# Altium schematic symbol library WR-PHD_Pin Header_2.54mm.SchLib: 136 symbols (part 3 of 3)
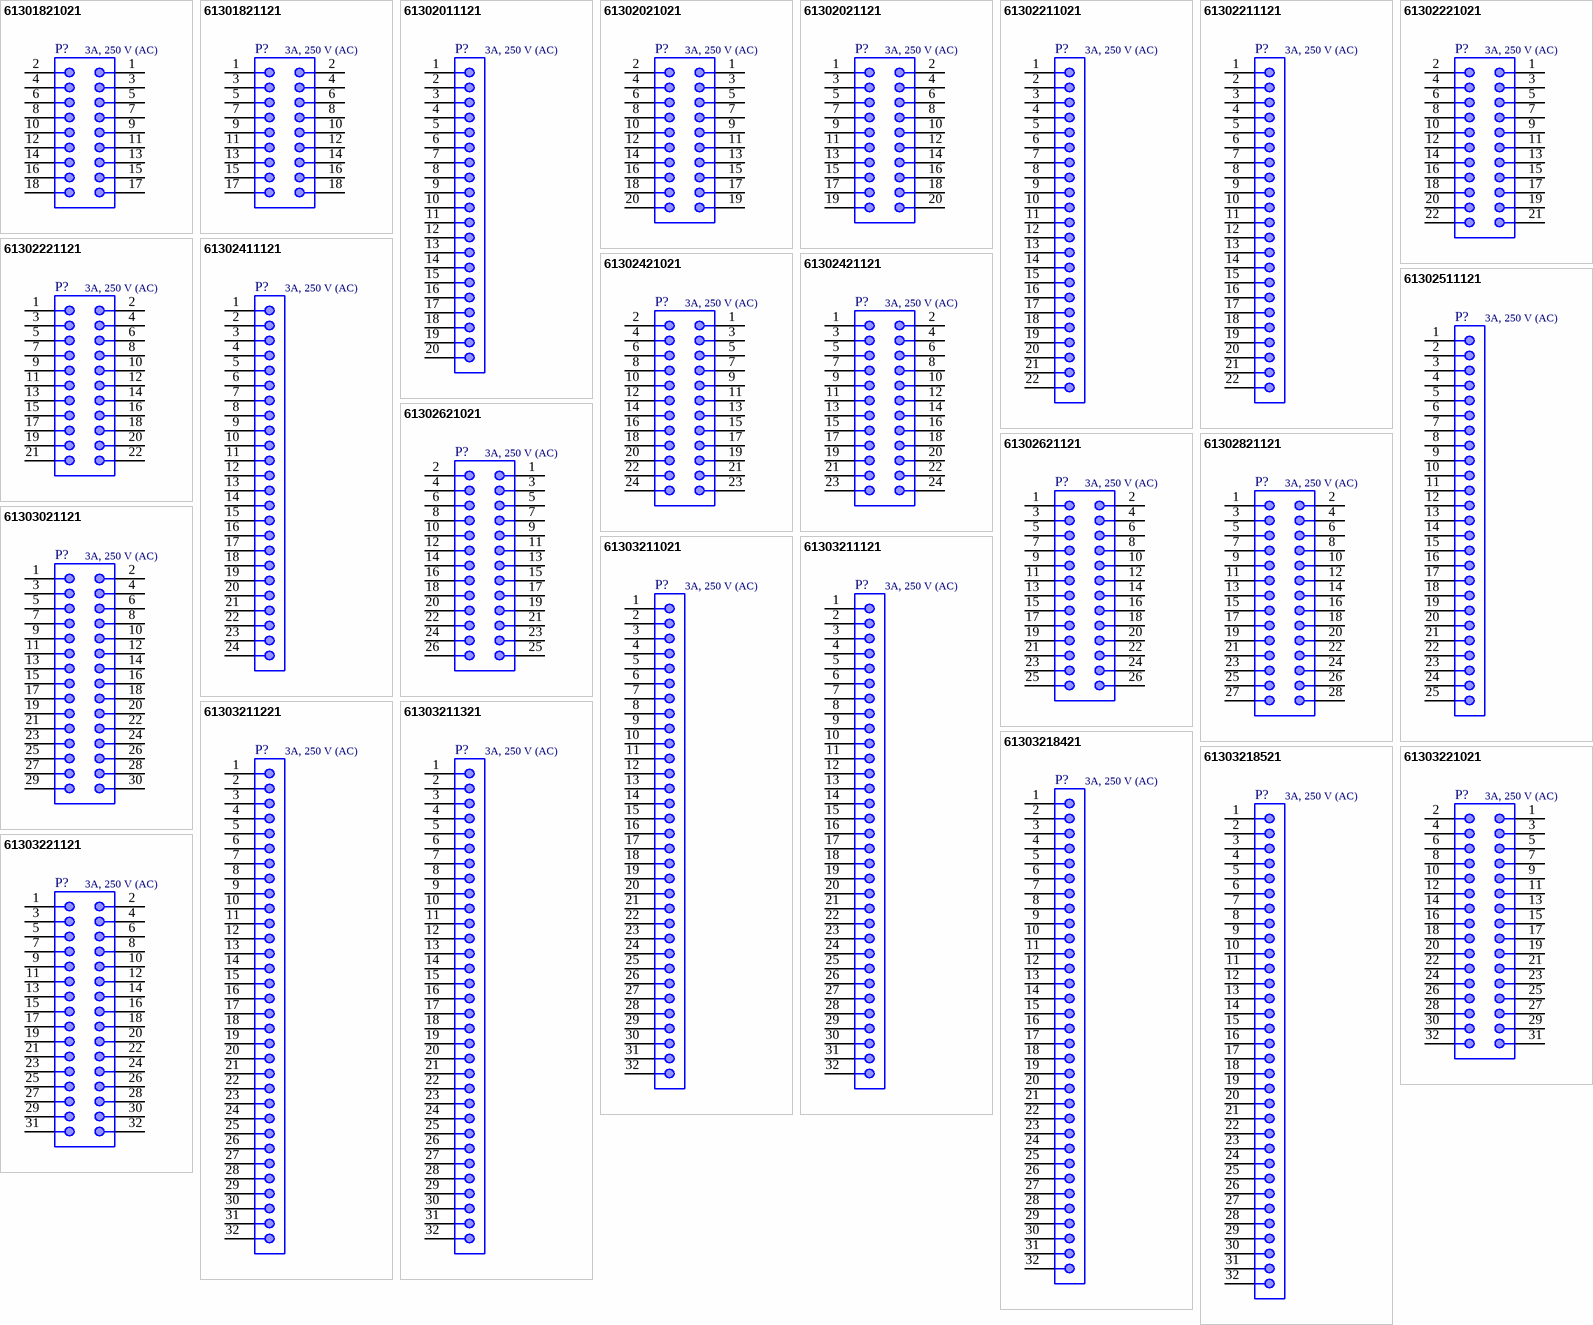
[diagram p6: symbols 61301821021 to 61303221121]

## 61302621121
designator P?, comment 3A, 250 V (AC)
WR-PHD Pin Header, THT, pitch 2.54mm, Dual Row, Vertical, 26p; Manufacturer Part Number: 61302621121; Manufacturer: Wurth Elektronik; Pin Number: 26; Working Voltage: 250VAC; Withstanding Voltage: 500VAC; Contact Resistance: 20mOhm; ComponentLink1Description: Datasheet; ComponentLink1URL: https://www.we-online.com/catalog/datasheet/61302621121.pdf; Published Date: May 2020; Pitch: 2.54mm; Packaging: Bag; Gender: Pin Header; Rated Current: 3A; Row Number: Dual; Orientation: Vertical; Supplier 1 URL: https://www.mouser.vn/ProductDetail/Wurth-Elektronik/61302621121?qs=PhR8RmCirEalTsPbGBaygg%3D%3D; Supplier 2 URL: N/A; Supplier 3 URL: N/A; LCSC Part #: N/A; Mount: THT; Operating Temperature Max: + 85 C; Operating Temperature Min: - 25 C; Supplier 1: Mouser; Supplier 1 Part Number: 710-61302621121; Supplier 2: Digi-Key; Supplier 2 Part Number: N/A; Supplier 3: thegioiic; Supplier 3 Part Number: N/A; Value: 3A, 250 V (AC)
footprint 61302621121
pins: 1, 2, 3, 4, 5, 6, 7, 8, 9, 10, 11, 12, 13, 14, 15, 16, 17, 18, 19, 20, 21, 22, 23, 24, 25, 26

## 61302821121
designator P?, comment 3A, 250 V (AC)
WR-PHD Pin Header, THT, pitch 2.54mm, Dual Row, Vertical, 28p; Manufacturer Part Number: 61302821121; Manufacturer: Wurth Elektronik; Pin Number: 28; Working Voltage: 250VAC; Withstanding Voltage: 500VAC; Contact Resistance: 20mOhm; ComponentLink1Description: Datasheet; ComponentLink1URL: https://www.we-online.com/catalog/datasheet/61302821121.pdf; Published Date: May 2020; Pitch: 2.54mm; Packaging: Bag; Gender: Pin Header; Rated Current: 3A; Row Number: Dual; Orientation: Vertical; Supplier 1 URL: https://www.mouser.vn/ProductDetail/Wurth-Elektronik/61302821121?qs=PhR8RmCirEYKibIzp7sF3Q%3D%3D; Supplier 2 URL: N/A; Supplier 3 URL: N/A; LCSC Part #: N/A; Mount: THT; Operating Temperature Max: + 85 C; Operating Temperature Min: - 25 C; Supplier 1: Mouser; Supplier 1 Part Number: 710-61302821121; Supplier 2: Digi-Key; Supplier 2 Part Number: N/A; Supplier 3: thegioiic; Supplier 3 Part Number: N/A; Value: 3A, 250 V (AC)
footprint 61302821121
pins: 1, 2, 3, 4, 5, 6, 7, 8, 9, 10, 11, 12, 13, 14, 15, 16, 17, 18, 19, 20, 21, 22, 23, 24, 25, 26, 27, 28

## 61303021121
designator P?, comment 3A, 250 V (AC)
WR-PHD Pin Header, THT, pitch 2.54mm, Dual Row, Vertical, 30p; Manufacturer Part Number: 61303021121; Manufacturer: Wurth Elektronik; Pin Number: 30; Working Voltage: 250VAC; Withstanding Voltage: 500VAC; Contact Resistance: 20mOhm; ComponentLink1Description: Datasheet; ComponentLink1URL: https://www.we-online.com/catalog/datasheet/61303021121.pdf; Published Date: May 2020; Pitch: 2.54mm; Packaging: Bag; Gender: Pin Header; Rated Current: 3A; Row Number: Dual; Orientation: Vertical; Supplier 1 URL: https://www.mouser.vn/ProductDetail/Wurth-Elektronik/61303021121?qs=PhR8RmCirEY%2F7mf%2Fwdy8Vg%3D%3D; Supplier 2 URL: N/A; Supplier 3 URL: N/A; LCSC Part #: N/A; Mount: THT; Operating Temperature Max: + 85 C; Operating Temperature Min: - 25 C; Supplier 1: Mouser; Supplier 1 Part Number: 710-61303021121; Supplier 2: Digi-Key; Supplier 2 Part Number: N/A; Supplier 3: thegioiic; Supplier 3 Part Number: N/A; Value: 3A, 250 V (AC)
footprint 61303021121
pins: 1, 2, 3, 4, 5, 6, 7, 8, 9, 10, 11, 12, 13, 14, 15, 16, 17, 18, 19, 20, 21, 22, 23, 24, 25, 26, 27, 28, 29, 30

## 61303211021
designator P?, comment 3A, 250 V (AC)
WR-PHD Pin Header, THT, pitch 2.54mm, Single Row, Angled, 32p; Manufacturer Part Number: 61303211021; Manufacturer: Wurth Elektronik; Pin Number: 32; Working Voltage: 250VAC; Withstanding Voltage: 500VAC; Contact Resistance: 20mOhm; ComponentLink1Description: Datasheet; ComponentLink1URL: https://www.we-online.com/catalog/datasheet/61303211021.pdf; Published Date: May 2020; Pitch: 2.54mm; Packaging: Bag; Gender: Pin Header; Rated Current: 3A; Row Number: Single; Orientation: Angled; Supplier 1 URL: N/A; Supplier 2 URL: N/A; Supplier 3 URL: N/A; LCSC Part #: N/A; Mount: THT; Operating Temperature Max: + 85 C; Operating Temperature Min: - 25 C; Supplier 1: Mouser; Supplier 1 Part Number: N/A; Supplier 2: Digi-Key; Supplier 2 Part Number: N/A; Supplier 3: thegioiic; Supplier 3 Part Number: N/A; Value: 3A, 250 V (AC)
footprint 61303211021
pins: 1, 2, 3, 4, 5, 6, 7, 8, 9, 10, 11, 12, 13, 14, 15, 16, 17, 18, 19, 20, 21, 22, 23, 24, 25, 26, 27, 28, 29, 30, 31, 32

## 61303211121
designator P?, comment 3A, 250 V (AC)
WR-PHD Pin Header, THT, pitch 2.54mm, Single Row, Vertical, 32p; Manufacturer Part Number: 61303211121; Manufacturer: Wurth Elektronik; Pin Number: 32; Working Voltage: 250VAC; Withstanding Voltage: 500VAC; Contact Resistance: 20mOhm; ComponentLink1Description: Datasheet; ComponentLink1URL: https://www.we-online.com/catalog/datasheet/61303211121.pdf; Published Date: May 2020; Pitch: 2.54mm; Packaging: Bag; Gender: Pin Header; Rated Current: 3A; Row Number: Single; Orientation: Vertical; Supplier 1 URL: https://www.mouser.vn/ProductDetail/Wurth-Elektronik/61303211121?qs=ZtY9WdtwX54tNU2%252BRPC1bA%3D%3D; Supplier 2 URL: N/A; Supplier 3 URL: N/A; LCSC Part #: N/A; Mount: THT; Operating Temperature Max: + 85 C; Operating Temperature Min: - 25 C; Supplier 1: Mouser; Supplier 1 Part Number: 710-61303211121; Supplier 2: Digi-Key; Supplier 2 Part Number: N/A; Supplier 3: thegioiic; Supplier 3 Part Number: N/A; Value: 3A, 250 V (AC)
footprint 61303211121
pins: 1, 2, 3, 4, 5, 6, 7, 8, 9, 10, 11, 12, 13, 14, 15, 16, 17, 18, 19, 20, 21, 22, 23, 24, 25, 26, 27, 28, 29, 30, 31, 32

## 61303211221
designator P?, comment 3A, 250 V (AC)
WR-PHD Pin Header, THT, pitch 2.54mm, Single Row, Vertical, 32p; Manufacturer Part Number: 61303211221; Manufacturer: Wurth Elektronik; Pin Number: 32; Working Voltage: 250VAC; Withstanding Voltage: 500VAC; Contact Resistance: 20mOhm; ComponentLink1Description: Datasheet; ComponentLink1URL: https://www.we-online.com/catalog/datasheet/61303211221.pdf; Published Date: May 2020; Pitch: 2.54mm; Packaging: Bag; Gender: Pin Header; Rated Current: 3A; Row Number: Single; Orientation: Vertical; Supplier 1 URL: https://www.mouser.vn/ProductDetail/Wurth-Elektronik/61303211221?qs=iLbezkQI%252BsjhOVkfD%252B%2F0nA%3D%3D; Supplier 2 URL: N/A; Supplier 3 URL: N/A; LCSC Part #: N/A; Mount: THT; Operating Temperature Max: + 85 C; Operating Temperature Min: - 25 C; Supplier 1: Mouser; Supplier 1 Part Number: 710-61303211221; Supplier 2: Digi-Key; Supplier 2 Part Number: N/A; Supplier 3: thegioiic; Supplier 3 Part Number: N/A; Value: 3A, 250 V (AC)
footprint 61303211221
pins: 1, 2, 3, 4, 5, 6, 7, 8, 9, 10, 11, 12, 13, 14, 15, 16, 17, 18, 19, 20, 21, 22, 23, 24, 25, 26, 27, 28, 29, 30, 31, 32

## 61303211321
designator P?, comment 3A, 250 V (AC)
WR-PHD Pin Header, THT, pitch 2.54mm, Single Row, Vertical, 32p; Manufacturer Part Number: 61303211321; Manufacturer: Wurth Elektronik; Pin Number: 32; Working Voltage: 250VAC; Withstanding Voltage: 500VAC; Contact Resistance: 20mOhm; ComponentLink1Description: Datasheet; ComponentLink1URL: https://www.we-online.com/catalog/datasheet/61303211321.pdf; Published Date: May 2020; Pitch: 2.54mm; Packaging: Bag; Gender: Pin Header; Rated Current: 3A; Row Number: Single; Orientation: Vertical; Supplier 1 URL: N/A; Supplier 2 URL: N/A; Supplier 3 URL: N/A; LCSC Part #: N/A; Mount: THT; Operating Temperature Max: + 85 C; Operating Temperature Min: - 25 C; Supplier 1: Mouser; Supplier 1 Part Number: N/A; Supplier 2: Digi-Key; Supplier 2 Part Number: N/A; Supplier 3: thegioiic; Supplier 3 Part Number: N/A; Value: 3A, 250 V (AC)
footprint 61303211321
pins: 1, 2, 3, 4, 5, 6, 7, 8, 9, 10, 11, 12, 13, 14, 15, 16, 17, 18, 19, 20, 21, 22, 23, 24, 25, 26, 27, 28, 29, 30, 31, 32

## 61303218421
designator P?, comment 3A, 250 V (AC)
WR-PHD Pin Header, THT, pitch 2.54mm, Single Row, Vertical, 32p; Manufacturer Part Number: 61303218421; Manufacturer: Wurth Elektronik; Pin Number: 32; Working Voltage: 250VAC; Withstanding Voltage: 500VAC; Contact Resistance: 20mOhm; ComponentLink1Description: Datasheet; ComponentLink1URL: https://www.we-online.com/catalog/datasheet/61303218421.pdf; Published Date: May 2020; Pitch: 2.54mm; Packaging: Bag; Gender: Pin Header; Rated Current: 3A; Row Number: Single; Orientation: Vertical; Supplier 1 URL: N/A; Supplier 2 URL: N/A; Supplier 3 URL: N/A; LCSC Part #: N/A; Mount: THT; Operating Temperature Max: + 85 C; Operating Temperature Min: - 25 C; Supplier 1: Mouser; Supplier 1 Part Number: N/A; Supplier 2: Digi-Key; Supplier 2 Part Number: N/A; Supplier 3: thegioiic; Supplier 3 Part Number: N/A; Value: 3A, 250 V (AC)
footprint 61303218421
pins: 1, 2, 3, 4, 5, 6, 7, 8, 9, 10, 11, 12, 13, 14, 15, 16, 17, 18, 19, 20, 21, 22, 23, 24, 25, 26, 27, 28, 29, 30, 31, 32

## 61303218521
designator P?, comment 3A, 250 V (AC)
WR-PHD Pin Header, THT, pitch 2.54mm, Single Row, Vertical, 32p; Manufacturer Part Number: 61303218521; Manufacturer: Wurth Elektronik; Pin Number: 32; Working Voltage: 250VAC; Withstanding Voltage: 500VAC; Contact Resistance: 20mOhm; ComponentLink1Description: Datasheet; ComponentLink1URL: https://www.we-online.com/catalog/datasheet/61303218521.pdf; Published Date: May 2020; Pitch: 2.54mm; Packaging: Bag; Gender: Pin Header; Rated Current: 3A; Row Number: Single; Orientation: Vertical; Supplier 1 URL: N/A; Supplier 2 URL: N/A; Supplier 3 URL: N/A; LCSC Part #: N/A; Mount: THT; Operating Temperature Max: + 85 C; Operating Temperature Min: - 25 C; Supplier 1: Mouser; Supplier 1 Part Number: N/A; Supplier 2: Digi-Key; Supplier 2 Part Number: N/A; Supplier 3: thegioiic; Supplier 3 Part Number: N/A; Value: 3A, 250 V (AC)
footprint 61303218521
pins: 1, 2, 3, 4, 5, 6, 7, 8, 9, 10, 11, 12, 13, 14, 15, 16, 17, 18, 19, 20, 21, 22, 23, 24, 25, 26, 27, 28, 29, 30, 31, 32

## 61303221021
designator P?, comment 3A, 250 V (AC)
WR-PHD Pin Header, THT, pitch 2.54mm, Dual Row, Angled, 32p; Manufacturer Part Number: 61303221021; Manufacturer: Wurth Elektronik; Pin Number: 32; Working Voltage: 250VAC; Withstanding Voltage: 500VAC; Contact Resistance: 20mOhm; ComponentLink1Description: Datasheet; ComponentLink1URL: https://www.we-online.com/catalog/datasheet/61303221021.pdf; Published Date: May 2020; Pitch: 2.54mm; Packaging: Bag; Gender: Pin Header; Rated Current: 3A; Row Number: Dual; Orientation: Angled; Supplier 1 URL: https://www.mouser.vn/ProductDetail/Wurth-Elektronik/61303221021?qs=PhR8RmCirEYGKwjyCca5qQ%3D%3D; Supplier 2 URL: N/A; Supplier 3 URL: N/A; LCSC Part #: N/A; Mount: THT; Operating Temperature Max: + 85 C; Operating Temperature Min: - 25 C; Supplier 1: Mouser; Supplier 1 Part Number: 710-61303221021; Supplier 2: Digi-Key; Supplier 2 Part Number: N/A; Supplier 3: thegioiic; Supplier 3 Part Number: N/A; Value: 3A, 250 V (AC)
footprint 61303221021
pins: 1, 2, 3, 4, 5, 6, 7, 8, 9, 10, 11, 12, 13, 14, 15, 16, 17, 18, 19, 20, 21, 22, 23, 24, 25, 26, 27, 28, 29, 30, 31, 32

## 61303221121
designator P?, comment 3A, 250 V (AC)
WR-PHD Pin Header, THT, pitch 2.54mm, Dual Row, Vertical, 32p; Manufacturer Part Number: 61303221121; Manufacturer: Wurth Elektronik; Pin Number: 32; Working Voltage: 250VAC; Withstanding Voltage: 500VAC; Contact Resistance: 20mOhm; ComponentLink1Description: Datasheet; ComponentLink1URL: https://www.we-online.com/catalog/datasheet/61303221121.pdf; Published Date: May 2020; Pitch: 2.54mm; Packaging: Bag; Gender: Pin Header; Rated Current: 3A; Row Number: Dual; Orientation: Vertical; Supplier 1 URL: https://www.mouser.vn/ProductDetail/Wurth-Elektronik/61303221121?qs=PhR8RmCirEZNybqtn2OFyw%3D%3D; Supplier 2 URL: N/A; Supplier 3 URL: https://www.thegioiic.com/hang-rao-duc-doi-2-54mm-32-chan-2-hang-cao-11-2mm-xuyen-lo; LCSC Part #: N/A; Mount: THT; Operating Temperature Max: + 85 C; Operating Temperature Min: - 25 C; Supplier 1: Mouser; Supplier 1 Part Number: 710-61303221121; Supplier 2: Digi-Key; Supplier 2 Part Number: N/A; Supplier 3: thegioiic; Supplier 3 Part Number: N/A; Value: 3A, 250 V (AC)
footprint 61303221121
pins: 1, 2, 3, 4, 5, 6, 7, 8, 9, 10, 11, 12, 13, 14, 15, 16, 17, 18, 19, 20, 21, 22, 23, 24, 25, 26, 27, 28, 29, 30, 31, 32

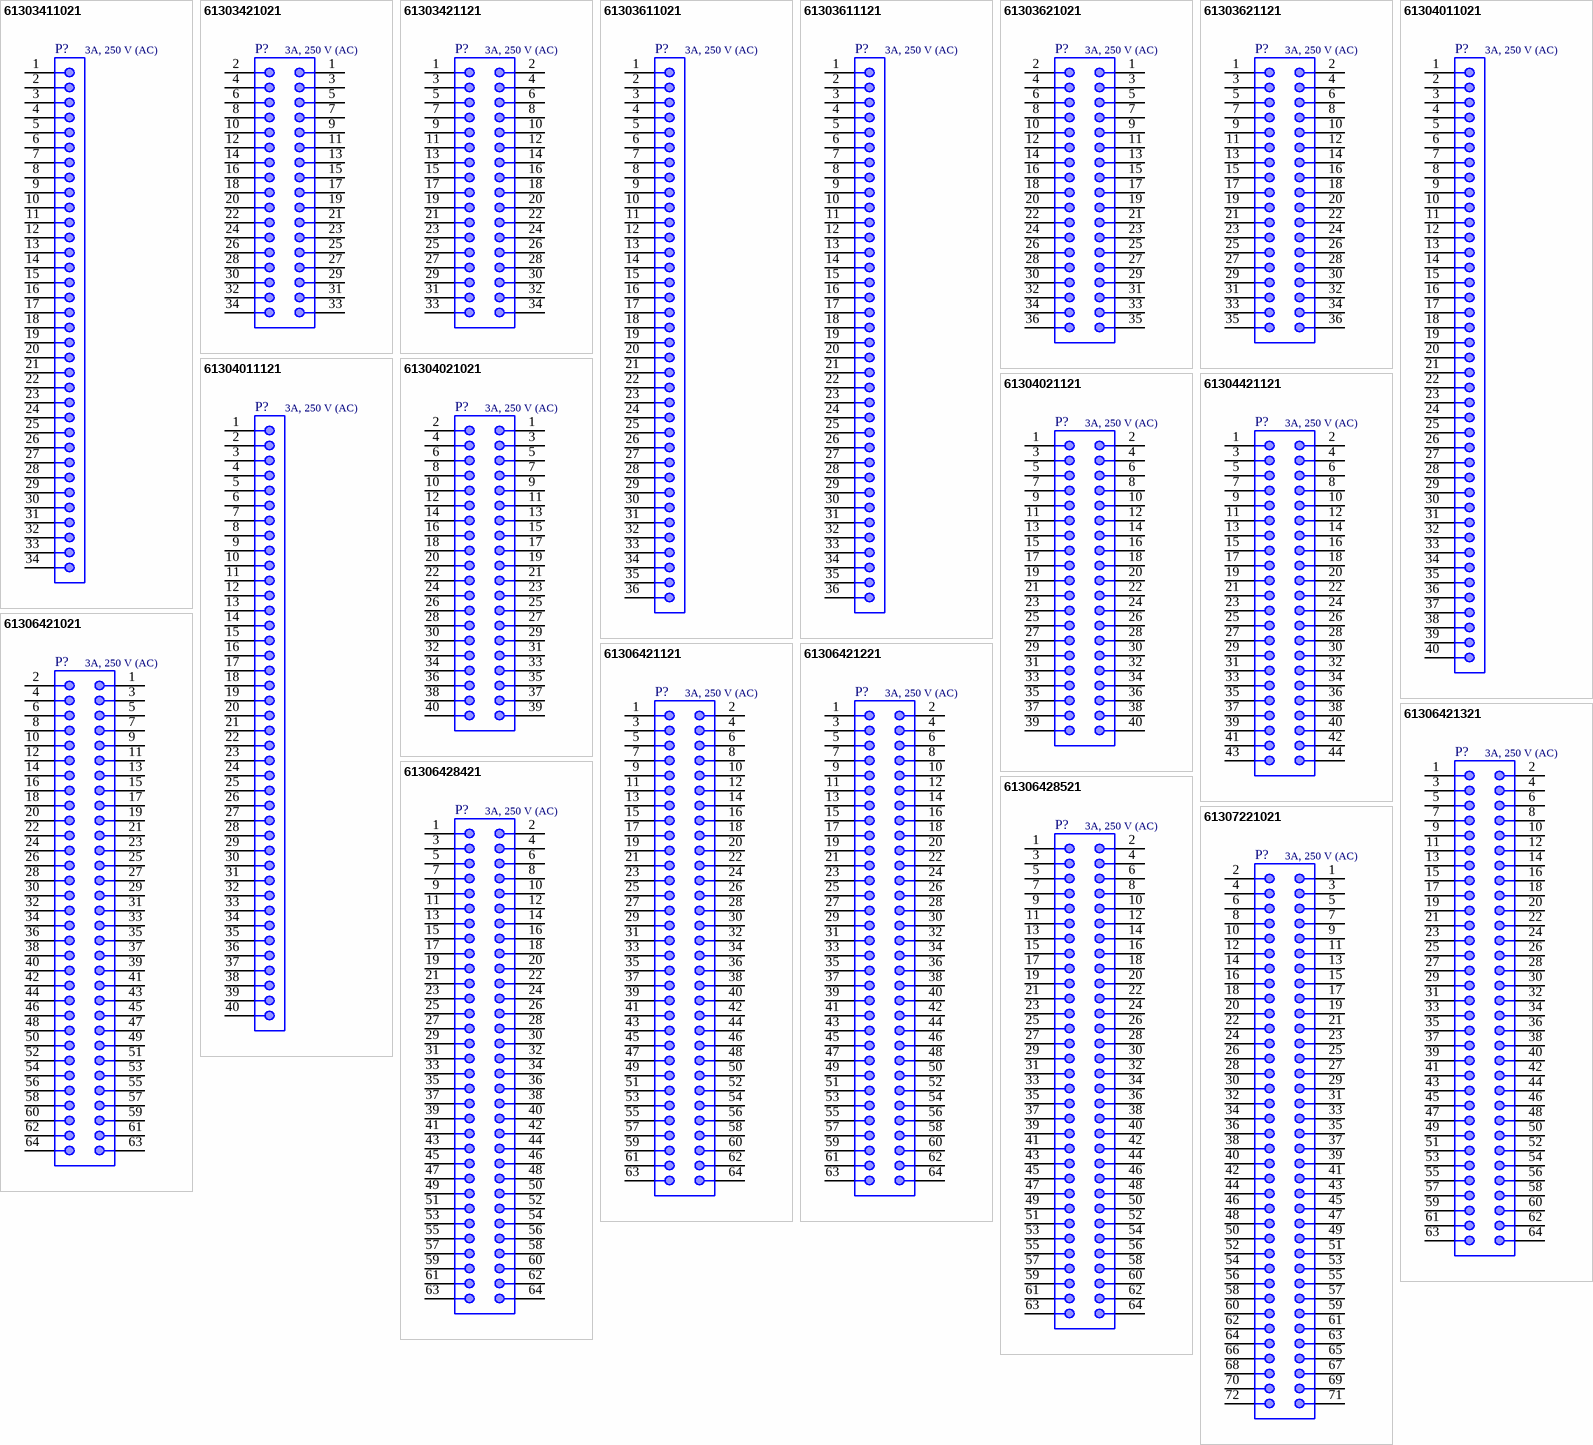
[diagram p3: symbols 61303411021 to 61307221021]

## 61303411021
designator P?, comment 3A, 250 V (AC)
WR-PHD Pin Header, THT, pitch 2.54mm, Single Row, Angled, 34p; Manufacturer Part Number: 61303411021; Manufacturer: Wurth Elektronik; Pin Number: 34; Working Voltage: 250VAC; Withstanding Voltage: 500VAC; Contact Resistance: 20mOhm; ComponentLink1Description: Datasheet; ComponentLink1URL: https://www.we-online.com/catalog/datasheet/61303411021.pdf; Published Date: May 2020; Pitch: 2.54mm; Packaging: Bag; Gender: Pin Header; Rated Current: 3A; Row Number: Single; Orientation: Angled; Supplier 1 URL: https://www.mouser.vn/ProductDetail/Wurth-Elektronik/61303411021?qs=PhR8RmCirEaEsIRlDeqhyg%3D%3D; Supplier 2 URL: N/A; Supplier 3 URL: N/A; LCSC Part #: N/A; Mount: THT; Operating Temperature Max: + 85 C; Operating Temperature Min: - 25 C; Supplier 1: Mouser; Supplier 1 Part Number: 710-61303411021; Supplier 2: Digi-Key; Supplier 2 Part Number: N/A; Supplier 3: thegioiic; Supplier 3 Part Number: N/A; Value: 3A, 250 V (AC)
footprint 61303411021
pins: 1, 2, 3, 4, 5, 6, 7, 8, 9, 10, 11, 12, 13, 14, 15, 16, 17, 18, 19, 20, 21, 22, 23, 24, 25, 26, 27, 28, 29, 30, 31, 32, 33, 34

## 61303421021
designator P?, comment 3A, 250 V (AC)
WR-PHD Pin Header, THT, pitch 2.54mm, Dual Row, Angled, 34p; Manufacturer Part Number: 61303421021; Manufacturer: Wurth Elektronik; Pin Number: 34; Working Voltage: 250VAC; Withstanding Voltage: 500VAC; Contact Resistance: 20mOhm; ComponentLink1Description: Datasheet; ComponentLink1URL: https://www.we-online.com/catalog/datasheet/61303421021.pdf; Published Date: May 2020; Pitch: 2.54mm; Packaging: Bag; Gender: Pin Header; Rated Current: 3A; Row Number: Dual; Orientation: Angled; Supplier 1 URL: https://www.mouser.vn/ProductDetail/Wurth-Elektronik/61303421021?qs=PhR8RmCirEaPzY59fAFRyw%3D%3D; Supplier 2 URL: N/A; Supplier 3 URL: N/A; LCSC Part #: N/A; Mount: THT; Operating Temperature Max: + 85 C; Operating Temperature Min: - 25 C; Supplier 1: Mouser; Supplier 1 Part Number: 710-61303421021; Supplier 2: Digi-Key; Supplier 2 Part Number: N/A; Supplier 3: thegioiic; Supplier 3 Part Number: N/A; Value: 3A, 250 V (AC)
footprint 61303421021
pins: 1, 2, 3, 4, 5, 6, 7, 8, 9, 10, 11, 12, 13, 14, 15, 16, 17, 18, 19, 20, 21, 22, 23, 24, 25, 26, 27, 28, 29, 30, 31, 32, 33, 34

## 61303421121
designator P?, comment 3A, 250 V (AC)
WR-PHD Pin Header, THT, pitch 2.54mm, Dual Row, Vertical, 34p; Manufacturer Part Number: 61303421121; Manufacturer: Wurth Elektronik; Pin Number: 34; Working Voltage: 250VAC; Withstanding Voltage: 500VAC; Contact Resistance: 20mOhm; ComponentLink1Description: Datasheet; ComponentLink1URL: https://www.we-online.com/catalog/datasheet/61303421121.pdf; Published Date: May 2020; Pitch: 2.54mm; Packaging: Bag; Gender: Pin Header; Rated Current: 3A; Row Number: Dual; Orientation: Vertical; Supplier 1 URL: https://www.mouser.vn/ProductDetail/Wurth-Elektronik/61303421121?qs=PhR8RmCirEYjGzTwYxZnoQ%3D%3D; Supplier 2 URL: N/A; Supplier 3 URL: N/A; LCSC Part #: N/A; Mount: THT; Operating Temperature Max: + 85 C; Operating Temperature Min: - 25 C; Supplier 1: Mouser; Supplier 1 Part Number: 710-61303421121; Supplier 2: Digi-Key; Supplier 2 Part Number: N/A; Supplier 3: thegioiic; Supplier 3 Part Number: N/A; Value: 3A, 250 V (AC)
footprint 61303421121
pins: 1, 2, 3, 4, 5, 6, 7, 8, 9, 10, 11, 12, 13, 14, 15, 16, 17, 18, 19, 20, 21, 22, 23, 24, 25, 26, 27, 28, 29, 30, 31, 32, 33, 34

## 61303611021
designator P?, comment 3A, 250 V (AC)
WR-PHD Pin Header, THT, pitch 2.54mm, Single Row, Angled, 36p; Manufacturer Part Number: 61303611021; Manufacturer: Wurth Elektronik; Pin Number: 36; Working Voltage: 250VAC; Withstanding Voltage: 500VAC; Contact Resistance: 20mOhm; ComponentLink1Description: Datasheet; ComponentLink1URL: https://www.we-online.com/catalog/datasheet/61303611021.pdf; Published Date: May 2020; Pitch: 2.54mm; Packaging: Bag; Gender: Pin Header; Rated Current: 3A; Row Number: Single; Orientation: Angled; Supplier 1 URL: https://www.mouser.vn/ProductDetail/Wurth-Elektronik/61303611021?qs=PhR8RmCirEZiwJY5qxCfPw%3D%3D; Supplier 2 URL: N/A; Supplier 3 URL: N/A; LCSC Part #: N/A; Mount: THT; Operating Temperature Max: + 85 C; Operating Temperature Min: - 25 C; Supplier 1: Mouser; Supplier 1 Part Number: 710-61303611021; Supplier 2: Digi-Key; Supplier 2 Part Number: N/A; Supplier 3: thegioiic; Supplier 3 Part Number: N/A; Value: 3A, 250 V (AC)
footprint 61303611021
pins: 1, 2, 3, 4, 5, 6, 7, 8, 9, 10, 11, 12, 13, 14, 15, 16, 17, 18, 19, 20, 21, 22, 23, 24, 25, 26, 27, 28, 29, 30, 31, 32, 33, 34, 35, 36

## 61303611121
designator P?, comment 3A, 250 V (AC)
WR-PHD Pin Header, THT, pitch 2.54mm, Single Row, Vertical, 36p; Manufacturer Part Number: 61303611121; Manufacturer: Wurth Elektronik; Pin Number: 36; Working Voltage: 250VAC; Withstanding Voltage: 500VAC; Contact Resistance: 20mOhm; ComponentLink1Description: Datasheet; ComponentLink1URL: https://www.we-online.com/catalog/datasheet/61303611121.pdf; Published Date: May 2020; Pitch: 2.54mm; Packaging: Bag; Gender: Pin Header; Rated Current: 3A; Row Number: Single; Orientation: Vertical; Supplier 1 URL: https://www.mouser.vn/ProductDetail/Wurth-Elektronik/61303611121?qs=PhR8RmCirEZjSrEqD8xI%2Fg%3D%3D; Supplier 2 URL: N/A; Supplier 3 URL: N/A; LCSC Part #: N/A; Mount: THT; Operating Temperature Max: + 85 C; Operating Temperature Min: - 25 C; Supplier 1: Mouser; Supplier 1 Part Number: 710-61303611121; Supplier 2: Digi-Key; Supplier 2 Part Number: N/A; Supplier 3: thegioiic; Supplier 3 Part Number: N/A; Value: 3A, 250 V (AC)
footprint 61303611121
pins: 1, 2, 3, 4, 5, 6, 7, 8, 9, 10, 11, 12, 13, 14, 15, 16, 17, 18, 19, 20, 21, 22, 23, 24, 25, 26, 27, 28, 29, 30, 31, 32, 33, 34, 35, 36

## 61303621021
designator P?, comment 3A, 250 V (AC)
WR-PHD Pin Header, THT, pitch 2.54mm, Dual Row, Angled, 36p; Manufacturer Part Number: 61303621021; Manufacturer: Wurth Elektronik; Pin Number: 36; Working Voltage: 250VAC; Withstanding Voltage: 500VAC; Contact Resistance: 20mOhm; ComponentLink1Description: Datasheet; ComponentLink1URL: https://www.we-online.com/catalog/datasheet/61303621021.pdf; Published Date: May 2020; Pitch: 2.54mm; Packaging: Bag; Gender: Pin Header; Rated Current: 3A; Row Number: Dual; Orientation: Angled; Supplier 1 URL: https://www.mouser.vn/ProductDetail/Wurth-Elektronik/61303621021?qs=PhR8RmCirEY19knQmiv7HQ%3D%3D; Supplier 2 URL: N/A; Supplier 3 URL: N/A; LCSC Part #: N/A; Mount: THT; Operating Temperature Max: + 85 C; Operating Temperature Min: - 25 C; Supplier 1: Mouser; Supplier 1 Part Number: 710-61303621021; Supplier 2: Digi-Key; Supplier 2 Part Number: N/A; Supplier 3: thegioiic; Supplier 3 Part Number: N/A; Value: 3A, 250 V (AC)
footprint 61303621021
pins: 1, 2, 3, 4, 5, 6, 7, 8, 9, 10, 11, 12, 13, 14, 15, 16, 17, 18, 19, 20, 21, 22, 23, 24, 25, 26, 27, 28, 29, 30, 31, 32, 33, 34, 35, 36

## 61303621121
designator P?, comment 3A, 250 V (AC)
WR-PHD Pin Header, THT, pitch 2.54mm, Dual Row, Vertical, 36p; Manufacturer Part Number: 61303621121; Manufacturer: Wurth Elektronik; Pin Number: 36; Working Voltage: 250VAC; Withstanding Voltage: 500VAC; Contact Resistance: 20mOhm; ComponentLink1Description: Datasheet; ComponentLink1URL: https://www.we-online.com/catalog/datasheet/61303621121.pdf; Published Date: May 2020; Pitch: 2.54mm; Packaging: Bag; Gender: Pin Header; Rated Current: 3A; Row Number: Dual; Orientation: Vertical; Supplier 1 URL: https://www.mouser.vn/ProductDetail/Wurth-Elektronik/61303621121?qs=PhR8RmCirEbX4NHfZ5nFxQ%3D%3D; Supplier 2 URL: N/A; Supplier 3 URL: N/A; LCSC Part #: N/A; Mount: THT; Operating Temperature Max: + 85 C; Operating Temperature Min: - 25 C; Supplier 1: Mouser; Supplier 1 Part Number: 710-61303621121; Supplier 2: Digi-Key; Supplier 2 Part Number: N/A; Supplier 3: thegioiic; Supplier 3 Part Number: N/A; Value: 3A, 250 V (AC)
footprint 61303621121
pins: 1, 2, 3, 4, 5, 6, 7, 8, 9, 10, 11, 12, 13, 14, 15, 16, 17, 18, 19, 20, 21, 22, 23, 24, 25, 26, 27, 28, 29, 30, 31, 32, 33, 34, 35, 36

## 61304011021
designator P?, comment 3A, 250 V (AC)
WR-PHD Pin Header, THT, pitch 2.54mm, Single Row, Angled, 40p; Manufacturer Part Number: 61304011021; Manufacturer: Wurth Elektronik; Pin Number: 40; Working Voltage: 250VAC; Withstanding Voltage: 500VAC; Contact Resistance: 20mOhm; ComponentLink1Description: Datasheet; ComponentLink1URL: https://www.we-online.com/catalog/datasheet/61304011021.pdf; Published Date: May 2020; Pitch: 2.54mm; Packaging: Bag; Gender: Pin Header; Rated Current: 3A; Row Number: Single; Orientation: Angled; Supplier 1 URL: https://www.mouser.vn/ProductDetail/Wurth-Elektronik/61304011021?qs=PhR8RmCirEbaksMaW6gkHw%3D%3D; Supplier 2 URL: N/A; Supplier 3 URL: https://www.thegioiic.com/hang-rao-duc-doi-2-54mm-80-chan-2-hang-cao-11-2mm-xuyen-lo; LCSC Part #: N/A; Mount: THT; Operating Temperature Max: + 85 C; Operating Temperature Min: - 25 C; Supplier 1: Mouser; Supplier 1 Part Number: 710-61304011021; Supplier 2: Digi-Key; Supplier 2 Part Number: N/A; Supplier 3: thegioiic; Supplier 3 Part Number: N/A; Value: 3A, 250 V (AC)
footprint 61304011021
pins: 1, 2, 3, 4, 5, 6, 7, 8, 9, 10, 11, 12, 13, 14, 15, 16, 17, 18, 19, 20, 21, 22, 23, 24, 25, 26, 27, 28, 29, 30, 31, 32, 33, 34, 35, 36, 37, 38, 39, 40

## 61304011121
designator P?, comment 3A, 250 V (AC)
WR-PHD Pin Header, THT, pitch 2.54mm, Single Row, Vertical, 40p; Manufacturer Part Number: 61304011121; Manufacturer: Wurth Elektronik; Pin Number: 40; Working Voltage: 250VAC; Withstanding Voltage: 500VAC; Contact Resistance: 20mOhm; ComponentLink1Description: Datasheet; ComponentLink1URL: https://www.we-online.com/catalog/datasheet/61304011121.pdf; Published Date: May 2020; Pitch: 2.54mm; Packaging: Bag; Gender: Pin Header; Rated Current: 3A; Row Number: Single; Orientation: Vertical; Supplier 1 URL: https://www.mouser.vn/ProductDetail/Wurth-Elektronik/61304011121?qs=PhR8RmCirEZJqAFOTF3fMQ%3D%3D; Supplier 2 URL: N/A; Supplier 3 URL: https://www.thegioiic.com/hang-rao-duc-don-2-54mm-40-chan-1-hang-cao-11-2mm-xuyen-lo-loai-tot; LCSC Part #: N/A; Mount: THT; Operating Temperature Max: + 85 C; Operating Temperature Min: - 25 C; Supplier 1: Mouser; Supplier 1 Part Number: 710-61304011121; Supplier 2: Digi-Key; Supplier 2 Part Number: N/A; Supplier 3: thegioiic; Supplier 3 Part Number: N/A; Value: 3A, 250 V (AC)
footprint 61304011121
pins: 1, 2, 3, 4, 5, 6, 7, 8, 9, 10, 11, 12, 13, 14, 15, 16, 17, 18, 19, 20, 21, 22, 23, 24, 25, 26, 27, 28, 29, 30, 31, 32, 33, 34, 35, 36, 37, 38, 39, 40

## 61304021021
designator P?, comment 3A, 250 V (AC)
WR-PHD Pin Header, THT, pitch 2.54mm, Dual Row, Angled, 40p; Manufacturer Part Number: 61304021021; Manufacturer: Wurth Elektronik; Pin Number: 40; Working Voltage: 250VAC; Withstanding Voltage: 500VAC; Contact Resistance: 20mOhm; ComponentLink1Description: Datasheet; ComponentLink1URL: https://www.we-online.com/catalog/datasheet/61304021021.pdf; Published Date: May 2020; Pitch: 2.54mm; Packaging: Bag; Gender: Pin Header; Rated Current: 3A; Row Number: Dual; Orientation: Angled; Supplier 1 URL: https://www.mouser.vn/ProductDetail/Wurth-Elektronik/61304021021?qs=PhR8RmCirEYuhVBB96F2cQ%3D%3D; Supplier 2 URL: N/A; Supplier 3 URL: N/A; LCSC Part #: N/A; Mount: THT; Operating Temperature Max: + 85 C; Operating Temperature Min: - 25 C; Supplier 1: Mouser; Supplier 1 Part Number: 710-61304021021; Supplier 2: Digi-Key; Supplier 2 Part Number: N/A; Supplier 3: thegioiic; Supplier 3 Part Number: N/A; Value: 3A, 250 V (AC)
footprint 61304021021
pins: 1, 2, 3, 4, 5, 6, 7, 8, 9, 10, 11, 12, 13, 14, 15, 16, 17, 18, 19, 20, 21, 22, 23, 24, 25, 26, 27, 28, 29, 30, 31, 32, 33, 34, 35, 36, 37, 38, 39, 40

## 61304021121
designator P?, comment 3A, 250 V (AC)
WR-PHD Pin Header, THT, pitch 2.54mm, Dual Row, Vertical, 40p; Manufacturer Part Number: 61304021121; Manufacturer: Wurth Elektronik; Pin Number: 40; Working Voltage: 250VAC; Withstanding Voltage: 500VAC; Contact Resistance: 20mOhm; ComponentLink1Description: Datasheet; ComponentLink1URL: https://www.we-online.com/catalog/datasheet/61304021121.pdf; Published Date: May 2020; Pitch: 2.54mm; Packaging: Bag; Gender: Pin Header; Rated Current: 3A; Row Number: Dual; Orientation: Vertical; Supplier 1 URL: https://www.mouser.vn/ProductDetail/Wurth-Elektronik/61304021121?qs=PhR8RmCirEYWKI5WqdDUyg%3D%3D; Supplier 2 URL: N/A; Supplier 3 URL: N/A; LCSC Part #: N/A; Mount: THT; Operating Temperature Max: + 85 C; Operating Temperature Min: - 25 C; Supplier 1: Mouser; Supplier 1 Part Number: 710-61304021121; Supplier 2: Digi-Key; Supplier 2 Part Number: N/A; Supplier 3: thegioiic; Supplier 3 Part Number: N/A; Value: 3A, 250 V (AC)
footprint 61304021121
pins: 1, 2, 3, 4, 5, 6, 7, 8, 9, 10, 11, 12, 13, 14, 15, 16, 17, 18, 19, 20, 21, 22, 23, 24, 25, 26, 27, 28, 29, 30, 31, 32, 33, 34, 35, 36, 37, 38, 39, 40

## 61304421121
designator P?, comment 3A, 250 V (AC)
WR-PHD Pin Header, THT, pitch 2.54mm, Dual Row, Vertical, 44p; Manufacturer Part Number: 61304421121; Manufacturer: Wurth Elektronik; Pin Number: 44; Working Voltage: 250VAC; Withstanding Voltage: 500VAC; Contact Resistance: 20mOhm; ComponentLink1Description: Datasheet; ComponentLink1URL: https://www.we-online.com/catalog/datasheet/61304421121.pdf; Published Date: May 2020; Pitch: 2.54mm; Packaging: Bag; Gender: Pin Header; Rated Current: 3A; Row Number: Dual; Orientation: Vertical; Supplier 1 URL: https://www.mouser.vn/ProductDetail/Wurth-Elektronik/61304421121?qs=PhR8RmCirEYci8bumHxk4w%3D%3D; Supplier 2 URL: N/A; Supplier 3 URL: N/A; LCSC Part #: N/A; Mount: THT; Operating Temperature Max: + 85 C; Operating Temperature Min: - 25 C; Supplier 1: Mouser; Supplier 1 Part Number: 710-61304421121; Supplier 2: Digi-Key; Supplier 2 Part Number: N/A; Supplier 3: thegioiic; Supplier 3 Part Number: N/A; Value: 3A, 250 V (AC)
footprint 61304421121
pins: 1, 2, 3, 4, 5, 6, 7, 8, 9, 10, 11, 12, 13, 14, 15, 16, 17, 18, 19, 20, 21, 22, 23, 24, 25, 26, 27, 28, 29, 30, 31, 32, 33, 34, 35, 36, 37, 38, 39, 40, 41, 42, 43, 44

## 61306421021
designator P?, comment 3A, 250 V (AC)
WR-PHD Pin Header, THT, pitch 2.54mm, Dual Row, Angled, 64p; Manufacturer Part Number: 61306421021; Manufacturer: Wurth Elektronik; Pin Number: 64; Working Voltage: 250VAC; Withstanding Voltage: 500VAC; Contact Resistance: 20mOhm; ComponentLink1Description: Datasheet; ComponentLink1URL: https://www.we-online.com/catalog/datasheet/61306421021.pdf; Published Date: May 2020; Pitch: 2.54mm; Packaging: Bag; Gender: Pin Header; Rated Current: 3A; Row Number: Dual; Orientation: Angled; Supplier 1 URL: https://www.mouser.vn/ProductDetail/Wurth-Elektronik/61306421021?qs=ZtY9WdtwX56ogg%2FSDb6Fqg%3D%3D; Supplier 2 URL: N/A; Supplier 3 URL: N/A; LCSC Part #: N/A; Mount: THT; Operating Temperature Max: + 85 C; Operating Temperature Min: - 25 C; Supplier 1: Mouser; Supplier 1 Part Number: 710-61306421021; Supplier 2: Digi-Key; Supplier 2 Part Number: N/A; Supplier 3: thegioiic; Supplier 3 Part Number: N/A; Value: 3A, 250 V (AC)
footprint 61306421021
pins: 1, 2, 3, 4, 5, 6, 7, 8, 9, 10, 11, 12, 13, 14, 15, 16, 17, 18, 19, 20, 21, 22, 23, 24, 25, 26, 27, 28, 29, 30, 31, 32, 33, 34, 35, 36, 37, 38, 39, 40, 41, 42, 43, 44, 45, 46, 47, 48, 49, 50, 51, 52, 53, 54, 55, 56, 57, 58, 59, 60, 61, 62, 63, 64

## 61306421121
designator P?, comment 3A, 250 V (AC)
WR-PHD Pin Header, THT, pitch 2.54mm, Dual Row, Vertical, 64p; Manufacturer Part Number: 61306421121; Manufacturer: Wurth Elektronik; Pin Number: 64; Working Voltage: 250VAC; Withstanding Voltage: 500VAC; Contact Resistance: 20mOhm; ComponentLink1Description: Datasheet; ComponentLink1URL: https://www.we-online.com/catalog/datasheet/61306421121.pdf; Published Date: May 2020; Pitch: 2.54mm; Packaging: Bag; Gender: Pin Header; Rated Current: 3A; Row Number: Dual; Orientation: Vertical; Supplier 1 URL: https://www.mouser.vn/ProductDetail/Wurth-Elektronik/61306421121?qs=ZtY9WdtwX56GUoDF7wuIzg%3D%3D; Supplier 2 URL: N/A; Supplier 3 URL: N/A; LCSC Part #: N/A; Mount: THT; Operating Temperature Max: + 85 C; Operating Temperature Min: - 25 C; Supplier 1: Mouser; Supplier 1 Part Number: 710-61306421121; Supplier 2: Digi-Key; Supplier 2 Part Number: N/A; Supplier 3: thegioiic; Supplier 3 Part Number: N/A; Value: 3A, 250 V (AC)
footprint 61306421121
pins: 1, 2, 3, 4, 5, 6, 7, 8, 9, 10, 11, 12, 13, 14, 15, 16, 17, 18, 19, 20, 21, 22, 23, 24, 25, 26, 27, 28, 29, 30, 31, 32, 33, 34, 35, 36, 37, 38, 39, 40, 41, 42, 43, 44, 45, 46, 47, 48, 49, 50, 51, 52, 53, 54, 55, 56, 57, 58, 59, 60, 61, 62, 63, 64

## 61306421221
designator P?, comment 3A, 250 V (AC)
WR-PHD Pin Header, THT, pitch 2.54mm, Dual Row, Vertical, 64p; Manufacturer Part Number: 61306421221; Manufacturer: Wurth Elektronik; Pin Number: 64; Working Voltage: 250VAC; Withstanding Voltage: 500VAC; Contact Resistance: 20mOhm; ComponentLink1Description: Datasheet; ComponentLink1URL: https://www.we-online.com/catalog/datasheet/61306421221.pdf; Published Date: May 2020; Pitch: 2.54mm; Packaging: Bag; Gender: Pin Header; Rated Current: 3A; Row Number: Dual; Orientation: Vertical; Supplier 1 URL: N/A; Supplier 2 URL: N/A; Supplier 3 URL: N/A; LCSC Part #: N/A; Mount: THT; Operating Temperature Max: + 85 C; Operating Temperature Min: - 25 C; Supplier 1: Mouser; Supplier 1 Part Number: N/A; Supplier 2: Digi-Key; Supplier 2 Part Number: N/A; Supplier 3: thegioiic; Supplier 3 Part Number: N/A; Value: 3A, 250 V (AC)
footprint 61306421221
pins: 1, 2, 3, 4, 5, 6, 7, 8, 9, 10, 11, 12, 13, 14, 15, 16, 17, 18, 19, 20, 21, 22, 23, 24, 25, 26, 27, 28, 29, 30, 31, 32, 33, 34, 35, 36, 37, 38, 39, 40, 41, 42, 43, 44, 45, 46, 47, 48, 49, 50, 51, 52, 53, 54, 55, 56, 57, 58, 59, 60, 61, 62, 63, 64

## 61306421321
designator P?, comment 3A, 250 V (AC)
WR-PHD Pin Header, THT, pitch 2.54mm, Dual Row, Vertical, 64p; Manufacturer Part Number: 61306421321; Manufacturer: Wurth Elektronik; Pin Number: 64; Working Voltage: 250VAC; Withstanding Voltage: 500VAC; Contact Resistance: 20mOhm; ComponentLink1Description: Datasheet; ComponentLink1URL: https://www.we-online.com/catalog/datasheet/61306421321.pdf; Published Date: May 2020; Pitch: 2.54mm; Packaging: Bag; Gender: Pin Header; Rated Current: 3A; Row Number: Dual; Orientation: Vertical; Supplier 1 URL: N/A; Supplier 2 URL: N/A; Supplier 3 URL: N/A; LCSC Part #: N/A; Mount: THT; Operating Temperature Max: + 85 C; Operating Temperature Min: - 25 C; Supplier 1: Mouser; Supplier 1 Part Number: N/A; Supplier 2: Digi-Key; Supplier 2 Part Number: N/A; Supplier 3: thegioiic; Supplier 3 Part Number: N/A; Value: 3A, 250 V (AC)
footprint 61306421321
pins: 1, 2, 3, 4, 5, 6, 7, 8, 9, 10, 11, 12, 13, 14, 15, 16, 17, 18, 19, 20, 21, 22, 23, 24, 25, 26, 27, 28, 29, 30, 31, 32, 33, 34, 35, 36, 37, 38, 39, 40, 41, 42, 43, 44, 45, 46, 47, 48, 49, 50, 51, 52, 53, 54, 55, 56, 57, 58, 59, 60, 61, 62, 63, 64

## 61306428421
designator P?, comment 3A, 250 V (AC)
WR-PHD Pin Header, THT, pitch 2.54mm, Dual Row, Vertical, 64p; Manufacturer Part Number: 61306428421; Manufacturer: Wurth Elektronik; Pin Number: 64; Working Voltage: 250VAC; Withstanding Voltage: 500VAC; Contact Resistance: 20mOhm; ComponentLink1Description: Datasheet; ComponentLink1URL: https://www.we-online.com/catalog/datasheet/61306428421.pdf; Published Date: May 2020; Pitch: 2.54mm; Packaging: Bag; Gender: Pin Header; Rated Current: 3A; Row Number: Dual; Orientation: Vertical; Supplier 1 URL: N/A; Supplier 2 URL: N/A; Supplier 3 URL: N/A; LCSC Part #: N/A; Mount: THT; Operating Temperature Max: + 85 C; Operating Temperature Min: - 25 C; Supplier 1: Mouser; Supplier 1 Part Number: N/A; Supplier 2: Digi-Key; Supplier 2 Part Number: N/A; Supplier 3: thegioiic; Supplier 3 Part Number: N/A; Value: 3A, 250 V (AC)
footprint 61306428421
pins: 1, 2, 3, 4, 5, 6, 7, 8, 9, 10, 11, 12, 13, 14, 15, 16, 17, 18, 19, 20, 21, 22, 23, 24, 25, 26, 27, 28, 29, 30, 31, 32, 33, 34, 35, 36, 37, 38, 39, 40, 41, 42, 43, 44, 45, 46, 47, 48, 49, 50, 51, 52, 53, 54, 55, 56, 57, 58, 59, 60, 61, 62, 63, 64

## 61306428521
designator P?, comment 3A, 250 V (AC)
WR-PHD Pin Header, THT, pitch 2.54mm, Dual Row, Vertical, 64p; Manufacturer Part Number: 61306428521; Manufacturer: Wurth Elektronik; Pin Number: 64; Working Voltage: 250VAC; Withstanding Voltage: 500VAC; Contact Resistance: 20mOhm; ComponentLink1Description: Datasheet; ComponentLink1URL: https://www.we-online.com/catalog/datasheet/61306428521.pdf; Published Date: May 2020; Pitch: 2.54mm; Packaging: Bag; Gender: Pin Header; Rated Current: 3A; Row Number: Dual; Orientation: Vertical; Supplier 1 URL: https://www.mouser.vn/ProductDetail/Wurth-Elektronik/61306428521?qs=ulEaXIWI0c%2FvB6fJEXAXRw%3D%3D; Supplier 2 URL: N/A; Supplier 3 URL: N/A; LCSC Part #: N/A; Mount: THT; Operating Temperature Max: + 85 C; Operating Temperature Min: - 25 C; Supplier 1: Mouser; Supplier 1 Part Number: 710-61306428521; Supplier 2: Digi-Key; Supplier 2 Part Number: N/A; Supplier 3: thegioiic; Supplier 3 Part Number: N/A; Value: 3A, 250 V (AC)
footprint 61306428521
pins: 1, 2, 3, 4, 5, 6, 7, 8, 9, 10, 11, 12, 13, 14, 15, 16, 17, 18, 19, 20, 21, 22, 23, 24, 25, 26, 27, 28, 29, 30, 31, 32, 33, 34, 35, 36, 37, 38, 39, 40, 41, 42, 43, 44, 45, 46, 47, 48, 49, 50, 51, 52, 53, 54, 55, 56, 57, 58, 59, 60, 61, 62, 63, 64

## 61307221021
designator P?, comment 3A, 250 V (AC)
WR-PHD Pin Header, THT, pitch 2.54mm, Dual Row, Angled, 72p; Manufacturer Part Number: 61307221021; Manufacturer: Wurth Elektronik; Pin Number: 72; Working Voltage: 250VAC; Withstanding Voltage: 500VAC; Contact Resistance: 20mOhm; ComponentLink1Description: Datasheet; ComponentLink1URL: https://www.we-online.com/catalog/datasheet/61307221021.pdf; Published Date: May 2020; Pitch: 2.54mm; Packaging: Bag; Gender: Pin Header; Rated Current: 3A; Row Number: Dual; Orientation: Angled; Supplier 1 URL: https://www.mouser.vn/ProductDetail/Wurth-Elektronik/61307221021?qs=PhR8RmCirEZuc7qVeqnpZw%3D%3D; Supplier 2 URL: N/A; Supplier 3 URL: N/A; LCSC Part #: N/A; Mount: THT; Operating Temperature Max: + 85 C; Operating Temperature Min: - 25 C; Supplier 1: Mouser; Supplier 1 Part Number: 710-61307221021; Supplier 2: Digi-Key; Supplier 2 Part Number: N/A; Supplier 3: thegioiic; Supplier 3 Part Number: N/A; Value: 3A, 250 V (AC)
footprint 61307221021
pins: 1, 2, 3, 4, 5, 6, 7, 8, 9, 10, 11, 12, 13, 14, 15, 16, 17, 18, 19, 20, 21, 22, 23, 24, 25, 26, 27, 28, 29, 30, 31, 32, 33, 34, 35, 36, 37, 38, 39, 40, 41, 42, 43, 44, 45, 46, 47, 48, 49, 50, 51, 52, 53, 54, 55, 56, 57, 58, 59, 60, 61, 62, 63, 64, 65, 66, 67, 68, 69, 70, 71, 72

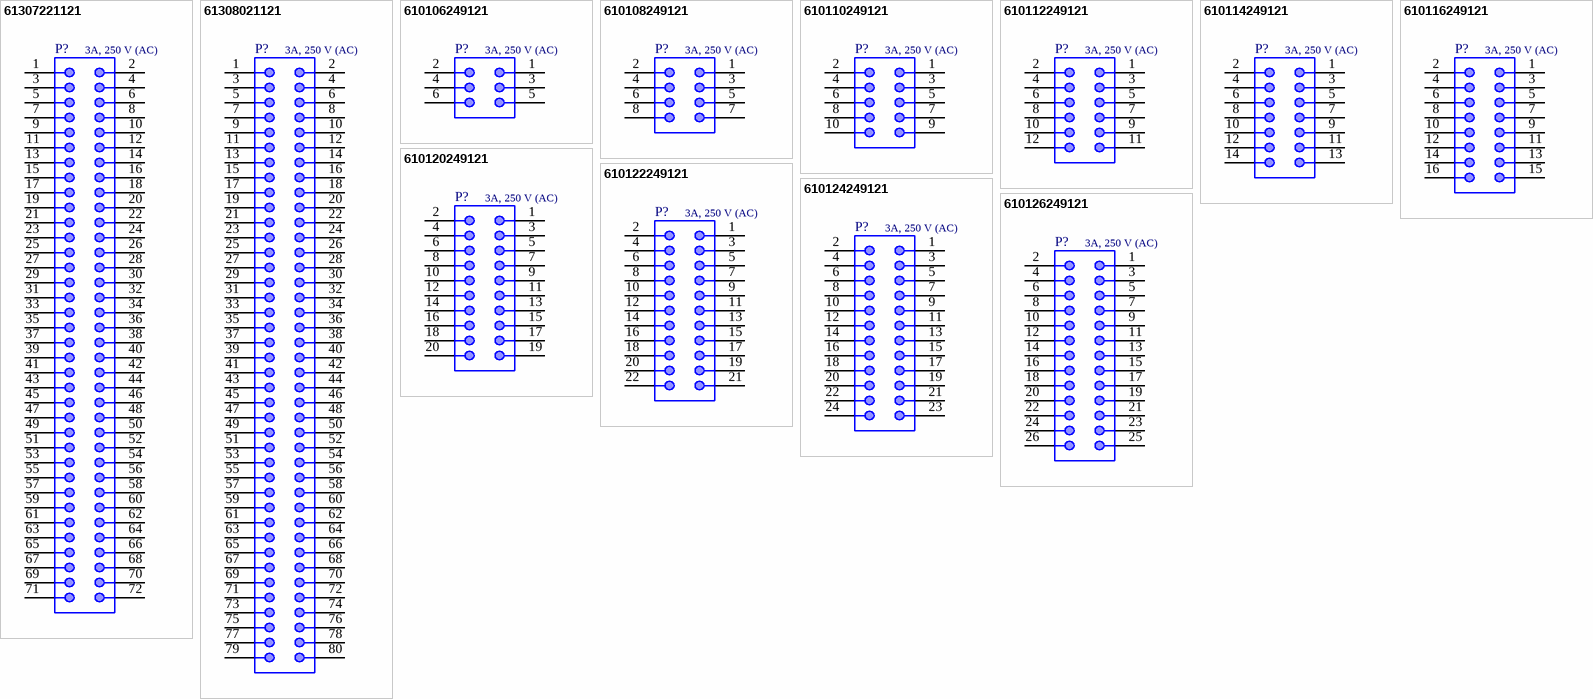
[diagram p4: symbols 61307221121 to 610126249121]

## 61307221121
designator P?, comment 3A, 250 V (AC)
WR-PHD Pin Header, THT, pitch 2.54mm, Dual Row, Vertical, 72p; Manufacturer Part Number: 61307221121; Manufacturer: Wurth Elektronik; Pin Number: 72; Working Voltage: 250VAC; Withstanding Voltage: 500VAC; Contact Resistance: 20mOhm; ComponentLink1Description: Datasheet; ComponentLink1URL: https://www.we-online.com/catalog/datasheet/61307221121.pdf; Published Date: May 2020; Pitch: 2.54mm; Packaging: Bag; Gender: Pin Header; Rated Current: 3A; Row Number: Dual; Orientation: Vertical; Supplier 1 URL: https://www.mouser.vn/ProductDetail/Wurth-Elektronik/61307221121?qs=PhR8RmCirEYwBNG74GBkeg%3D%3D; Supplier 2 URL: N/A; Supplier 3 URL: N/A; LCSC Part #: N/A; Mount: THT; Operating Temperature Max: + 85 C; Operating Temperature Min: - 25 C; Supplier 1: Mouser; Supplier 1 Part Number: 710-61307221121; Supplier 2: Digi-Key; Supplier 2 Part Number: N/A; Supplier 3: thegioiic; Supplier 3 Part Number: N/A; Value: 3A, 250 V (AC)
footprint 61307221121
pins: 1, 2, 3, 4, 5, 6, 7, 8, 9, 10, 11, 12, 13, 14, 15, 16, 17, 18, 19, 20, 21, 22, 23, 24, 25, 26, 27, 28, 29, 30, 31, 32, 33, 34, 35, 36, 37, 38, 39, 40, 41, 42, 43, 44, 45, 46, 47, 48, 49, 50, 51, 52, 53, 54, 55, 56, 57, 58, 59, 60, 61, 62, 63, 64, 65, 66, 67, 68, 69, 70, 71, 72

## 61308021121
designator P?, comment 3A, 250 V (AC)
WR-PHD Pin Header, THT, pitch 2.54mm, Dual Row, Vertical, 80p; Manufacturer Part Number: 61308021121; Manufacturer: Wurth Elektronik; Pin Number: 80; Working Voltage: 250VAC; Withstanding Voltage: 500VAC; Contact Resistance: 20mOhm; ComponentLink1Description: Datasheet; ComponentLink1URL: https://www.we-online.com/catalog/datasheet/61308021121.pdf; Published Date: May 2020; Pitch: 2.54mm; Packaging: Bag; Gender: Pin Header; Rated Current: 3A; Row Number: Dual; Orientation: Vertical; Supplier 1 URL: https://www.mouser.vn/ProductDetail/Wurth-Elektronik/61308021121?qs=PhR8RmCirEbAj4saJIM4SQ%3D%3D; Supplier 2 URL: N/A; Supplier 3 URL: https://www.thegioiic.com/hang-rao-duc-doi-2-54mm-80-chan-2-hang-cao-11-2mm-xuyen-lo; LCSC Part #: N/A; Mount: THT; Operating Temperature Max: + 85 C; Operating Temperature Min: - 25 C; Supplier 1: Mouser; Supplier 1 Part Number: 710-61308021121; Supplier 2: Digi-Key; Supplier 2 Part Number: N/A; Supplier 3: thegioiic; Supplier 3 Part Number: N/A; Value: 3A, 250 V (AC)
footprint 61308021121
pins: 1, 2, 3, 4, 5, 6, 7, 8, 9, 10, 11, 12, 13, 14, 15, 16, 17, 18, 19, 20, 21, 22, 23, 24, 25, 26, 27, 28, 29, 30, 31, 32, 33, 34, 35, 36, 37, 38, 39, 40, 41, 42, 43, 44, 45, 46, 47, 48, 49, 50, 51, 52, 53, 54, 55, 56, 57, 58, 59, 60, 61, 62, 63, 64, 65, 66, 67, 68, 69, 70, 71, 72, 73, 74, 75, 76, 77, 78, 79, 80

## 610106249121
designator P?, comment 3A, 250 V (AC)
WR-PHD Pin Header, SMT, pitch 2.54mm, Dual Row, Angled, 6p; Manufacturer Part Number: 610106249121; Manufacturer: Wurth Elektronik; Pin Number: 6; Working Voltage: 250VAC; Withstanding Voltage: 600VAC; Contact Resistance: 20mOhm; ComponentLink1Description: Datasheet; ComponentLink1URL: https://www.we-online.com/catalog/datasheet/610106249121.pdf; Published Date: May 2020; Pitch: 2.54mm; Packaging: Tape and Reel; Gender: Pin Header; Rated Current: 3A; Row Number: Dual; Orientation: Angled; Supplier 1 URL: https://www.mouser.vn/ProductDetail/Wurth-Elektronik/610106249121?qs=a9WhcLg8qCwpxCIpT60BFg%3D%3D; Supplier 2 URL: N/A; Supplier 3 URL: N/A; LCSC Part #: N/A; Mount: SMD/SMT; Operating Temperature Max: + 85 C; Operating Temperature Min: - 25 C; Supplier 1: Mouser; Supplier 1 Part Number: 710-610106249121; Supplier 2: Digi-Key; Supplier 2 Part Number: N/A; Supplier 3: thegioiic; Supplier 3 Part Number: N/A; Value: 3A, 250 V (AC)
footprint 610106249121
pins: 1, 2, 3, 4, 5, 6

## 610108249121
designator P?, comment 3A, 250 V (AC)
WR-PHD Pin Header, SMT, pitch 2.54mm, Dual Row, Angled, 8p; Manufacturer Part Number: 610108249121; Manufacturer: Wurth Elektronik; Pin Number: 8; Working Voltage: 250VAC; Withstanding Voltage: 600VAC; Contact Resistance: 20mOhm; ComponentLink1Description: Datasheet; ComponentLink1URL: https://www.we-online.com/catalog/datasheet/610108249121.pdf; Published Date: May 2020; Pitch: 2.54mm; Packaging: Tape and Reel; Gender: Pin Header; Rated Current: 3A; Row Number: Dual; Orientation: Angled; Supplier 1 URL: https://www.mouser.vn/ProductDetail/Wurth-Elektronik/610108249121?qs=a9WhcLg8qCxbQITPUuHU7A%3D%3D; Supplier 2 URL: N/A; Supplier 3 URL: N/A; LCSC Part #: N/A; Mount: SMD/SMT; Operating Temperature Max: + 85 C; Operating Temperature Min: - 25 C; Supplier 1: Mouser; Supplier 1 Part Number: 710-610108249121; Supplier 2: Digi-Key; Supplier 2 Part Number: N/A; Supplier 3: thegioiic; Supplier 3 Part Number: N/A; Value: 3A, 250 V (AC)
footprint 610108249121
pins: 1, 2, 3, 4, 5, 6, 7, 8

## 610110249121
designator P?, comment 3A, 250 V (AC)
WR-PHD Pin Header, SMT, pitch 2.54mm, Dual Row, Angled, 10p; Manufacturer Part Number: 610110249121; Manufacturer: Wurth Elektronik; Pin Number: 10; Working Voltage: 250VAC; Withstanding Voltage: 600VAC; Contact Resistance: 20mOhm; ComponentLink1Description: Datasheet; ComponentLink1URL: https://www.we-online.com/catalog/datasheet/610110249121.pdf; Published Date: May 2020; Pitch: 2.54mm; Packaging: Tape and Reel; Gender: Pin Header; Rated Current: 3A; Row Number: Dual; Orientation: Angled; Supplier 1 URL: https://www.mouser.vn/ProductDetail/Wurth-Elektronik/610110249121?qs=a9WhcLg8qCzIr%252B0m4JFDmA%3D%3D; Supplier 2 URL: N/A; Supplier 3 URL: N/A; LCSC Part #: N/A; Mount: SMD/SMT; Operating Temperature Max: + 85 C; Operating Temperature Min: - 25 C; Supplier 1: Mouser; Supplier 1 Part Number: 710-610110249121; Supplier 2: Digi-Key; Supplier 2 Part Number: N/A; Supplier 3: thegioiic; Supplier 3 Part Number: N/A; Value: 3A, 250 V (AC)
footprint 610110249121
pins: 1, 2, 3, 4, 5, 6, 7, 8, 9, 10

## 610112249121
designator P?, comment 3A, 250 V (AC)
WR-PHD Pin Header, SMT, pitch 2.54mm, Dual Row, Angled, 12p; Manufacturer Part Number: 610112249121; Manufacturer: Wurth Elektronik; Pin Number: 12; Working Voltage: 250VAC; Withstanding Voltage: 600VAC; Contact Resistance: 20mOhm; ComponentLink1Description: Datasheet; ComponentLink1URL: https://www.we-online.com/catalog/datasheet/610112249121.pdf; Published Date: May 2020; Pitch: 2.54mm; Packaging: Tape and Reel; Gender: Pin Header; Rated Current: 3A; Row Number: Dual; Orientation: Angled; Supplier 1 URL: https://www.mouser.vn/ProductDetail/Wurth-Elektronik/610112249121?qs=a9WhcLg8qCxlgNeGsCG7BA%3D%3D; Supplier 2 URL: N/A; Supplier 3 URL: N/A; LCSC Part #: N/A; Mount: SMD/SMT; Operating Temperature Max: + 85 C; Operating Temperature Min: - 25 C; Supplier 1: Mouser; Supplier 1 Part Number: 710-610112249121; Supplier 2: Digi-Key; Supplier 2 Part Number: N/A; Supplier 3: thegioiic; Supplier 3 Part Number: N/A; Value: 3A, 250 V (AC)
footprint 610112249121
pins: 1, 2, 3, 4, 5, 6, 7, 8, 9, 10, 11, 12

## 610114249121
designator P?, comment 3A, 250 V (AC)
WR-PHD Pin Header, SMT, pitch 2.54mm, Dual Row, Angled, 14p; Manufacturer Part Number: 610114249121; Manufacturer: Wurth Elektronik; Pin Number: 14; Working Voltage: 250VAC; Withstanding Voltage: 600VAC; Contact Resistance: 20mOhm; ComponentLink1Description: Datasheet; ComponentLink1URL: https://www.we-online.com/catalog/datasheet/610114249121.pdf; Published Date: May 2020; Pitch: 2.54mm; Packaging: Tape and Reel; Gender: Pin Header; Rated Current: 3A; Row Number: Dual; Orientation: Angled; Supplier 1 URL: https://www.mouser.vn/ProductDetail/Wurth-Elektronik/610114249121?qs=a9WhcLg8qCyaOBFNY2X%2FXw%3D%3D; Supplier 2 URL: N/A; Supplier 3 URL: N/A; LCSC Part #: N/A; Mount: SMD/SMT; Operating Temperature Max: + 85 C; Operating Temperature Min: - 25 C; Supplier 1: Mouser; Supplier 1 Part Number: 710-610114249121; Supplier 2: Digi-Key; Supplier 2 Part Number: N/A; Supplier 3: thegioiic; Supplier 3 Part Number: N/A; Value: 3A, 250 V (AC)
footprint 610114249121
pins: 1, 2, 3, 4, 5, 6, 7, 8, 9, 10, 11, 12, 13, 14

## 610116249121
designator P?, comment 3A, 250 V (AC)
WR-PHD Pin Header, SMT, pitch 2.54mm, Dual Row, Angled, 16p; Manufacturer Part Number: 610116249121; Manufacturer: Wurth Elektronik; Pin Number: 16; Working Voltage: 250VAC; Withstanding Voltage: 600VAC; Contact Resistance: 20mOhm; ComponentLink1Description: Datasheet; ComponentLink1URL: https://www.we-online.com/catalog/datasheet/610116249121.pdf; Published Date: May 2020; Pitch: 2.54mm; Packaging: Tape and Reel; Gender: Pin Header; Rated Current: 3A; Row Number: Dual; Orientation: Angled; Supplier 1 URL: https://www.mouser.vn/ProductDetail/Wurth-Elektronik/610116249121?qs=a9WhcLg8qCwEBNy84AfBmg%3D%3D; Supplier 2 URL: N/A; Supplier 3 URL: N/A; LCSC Part #: N/A; Mount: SMD/SMT; Operating Temperature Max: + 85 C; Operating Temperature Min: - 25 C; Supplier 1: Mouser; Supplier 1 Part Number: 710-610116249121; Supplier 2: Digi-Key; Supplier 2 Part Number: N/A; Supplier 3: thegioiic; Supplier 3 Part Number: N/A; Value: 3A, 250 V (AC)
footprint 610116249121
pins: 1, 2, 3, 4, 5, 6, 7, 8, 9, 10, 11, 12, 13, 14, 15, 16

## 610120249121
designator P?, comment 3A, 250 V (AC)
WR-PHD Pin Header, SMT, pitch 2.54mm, Dual Row, Angled, 20p; Manufacturer Part Number: 610120249121; Manufacturer: Wurth Elektronik; Pin Number: 20; Working Voltage: 250VAC; Withstanding Voltage: 600VAC; Contact Resistance: 20mOhm; ComponentLink1Description: Datasheet; ComponentLink1URL: https://www.we-online.com/catalog/datasheet/610120249121.pdf; Published Date: May 2020; Pitch: 2.54mm; Packaging: Tape and Reel; Gender: Pin Header; Rated Current: 3A; Row Number: Dual; Orientation: Angled; Supplier 1 URL: https://www.mouser.vn/ProductDetail/Wurth-Elektronik/610120249121?qs=a9WhcLg8qCyGq3AaIsRE6A%3D%3D; Supplier 2 URL: N/A; Supplier 3 URL: N/A; LCSC Part #: N/A; Mount: SMD/SMT; Operating Temperature Max: + 85 C; Operating Temperature Min: - 25 C; Supplier 1: Mouser; Supplier 1 Part Number: 710-610120249121; Supplier 2: Digi-Key; Supplier 2 Part Number: N/A; Supplier 3: thegioiic; Supplier 3 Part Number: N/A; Value: 3A, 250 V (AC)
footprint 610120249121
pins: 1, 2, 3, 4, 5, 6, 7, 8, 9, 10, 11, 12, 13, 14, 15, 16, 17, 18, 19, 20

## 610122249121
designator P?, comment 3A, 250 V (AC)
WR-PHD Pin Header, SMT, pitch 2.54mm, Dual Row, Angled, 22p; Manufacturer Part Number: 610122249121; Manufacturer: Wurth Elektronik; Pin Number: 22; Working Voltage: 250VAC; Withstanding Voltage: 600VAC; Contact Resistance: 20mOhm; ComponentLink1Description: Datasheet; ComponentLink1URL: https://www.we-online.com/catalog/datasheet/610122249121.pdf; Published Date: May 2020; Pitch: 2.54mm; Packaging: Tape and Reel; Gender: Pin Header; Rated Current: 3A; Row Number: Dual; Orientation: Angled; Supplier 1 URL: https://www.mouser.vn/ProductDetail/Wurth-Elektronik/610122249121?qs=a9WhcLg8qCyxO6RAAcUEUg%3D%3D; Supplier 2 URL: N/A; Supplier 3 URL: N/A; LCSC Part #: N/A; Mount: SMD/SMT; Operating Temperature Max: + 85 C; Operating Temperature Min: - 25 C; Supplier 1: Mouser; Supplier 1 Part Number: 710-610122249121; Supplier 2: Digi-Key; Supplier 2 Part Number: N/A; Supplier 3: thegioiic; Supplier 3 Part Number: N/A; Value: 3A, 250 V (AC)
footprint 610122249121
pins: 1, 2, 3, 4, 5, 6, 7, 8, 9, 10, 11, 12, 13, 14, 15, 16, 17, 18, 19, 20, 21, 22

## 610124249121
designator P?, comment 3A, 250 V (AC)
WR-PHD Pin Header, SMT, pitch 2.54mm, Dual Row, Angled, 24p; Manufacturer Part Number: 610124249121; Manufacturer: Wurth Elektronik; Pin Number: 24; Working Voltage: 250VAC; Withstanding Voltage: 600VAC; Contact Resistance: 20mOhm; ComponentLink1Description: Datasheet; ComponentLink1URL: https://www.we-online.com/catalog/datasheet/610124249121.pdf; Published Date: May 2020; Pitch: 2.54mm; Packaging: Tape and Reel; Gender: Pin Header; Rated Current: 3A; Row Number: Dual; Orientation: Angled; Supplier 1 URL: https://www.mouser.vn/ProductDetail/Wurth-Elektronik/610124249121?qs=a9WhcLg8qCw9Mz%2FJp%252BXd5g%3D%3D; Supplier 2 URL: N/A; Supplier 3 URL: N/A; LCSC Part #: N/A; Mount: SMD/SMT; Operating Temperature Max: + 85 C; Operating Temperature Min: - 25 C; Supplier 1: Mouser; Supplier 1 Part Number: 710-610124249121; Supplier 2: Digi-Key; Supplier 2 Part Number: N/A; Supplier 3: thegioiic; Supplier 3 Part Number: N/A; Value: 3A, 250 V (AC)
footprint 610124249121
pins: 1, 2, 3, 4, 5, 6, 7, 8, 9, 10, 11, 12, 13, 14, 15, 16, 17, 18, 19, 20, 21, 22, 23, 24

## 610126249121
designator P?, comment 3A, 250 V (AC)
WR-PHD Pin Header, SMT, pitch 2.54mm, Dual Row, Angled, 26p; Manufacturer Part Number: 610126249121; Manufacturer: Wurth Elektronik; Pin Number: 26; Working Voltage: 250VAC; Withstanding Voltage: 600VAC; Contact Resistance: 20mOhm; ComponentLink1Description: Datasheet; ComponentLink1URL: https://www.we-online.com/catalog/datasheet/610126249121.pdf; Published Date: May 2020; Pitch: 2.54mm; Packaging: Tape and Reel; Gender: Pin Header; Rated Current: 3A; Row Number: Dual; Orientation: Angled; Supplier 1 URL: https://www.mouser.vn/ProductDetail/Wurth-Elektronik/610126249121?qs=a9WhcLg8qCwzIJHPOHTwjA%3D%3D; Supplier 2 URL: N/A; Supplier 3 URL: N/A; LCSC Part #: N/A; Mount: SMD/SMT; Operating Temperature Max: + 85 C; Operating Temperature Min: - 25 C; Supplier 1: Mouser; Supplier 1 Part Number: 710-610126249121; Supplier 2: Digi-Key; Supplier 2 Part Number: N/A; Supplier 3: thegioiic; Supplier 3 Part Number: N/A; Value: 3A, 250 V (AC)
footprint 610126249121
pins: 1, 2, 3, 4, 5, 6, 7, 8, 9, 10, 11, 12, 13, 14, 15, 16, 17, 18, 19, 20, 21, 22, 23, 24, 25, 26